# Altium footprint library Footprints_Open.PcbLib: 9 footprints
Each footprint in its own frame and in the unit in brackets; x right, y up, seen from the top. Pads: shape width x height; smd on the part's side, far side on the other; paste and mask are expansions set on the pad; w line width, h text height; cw(c..) or ccw(c..) is an arc to the next point about the centre after c.
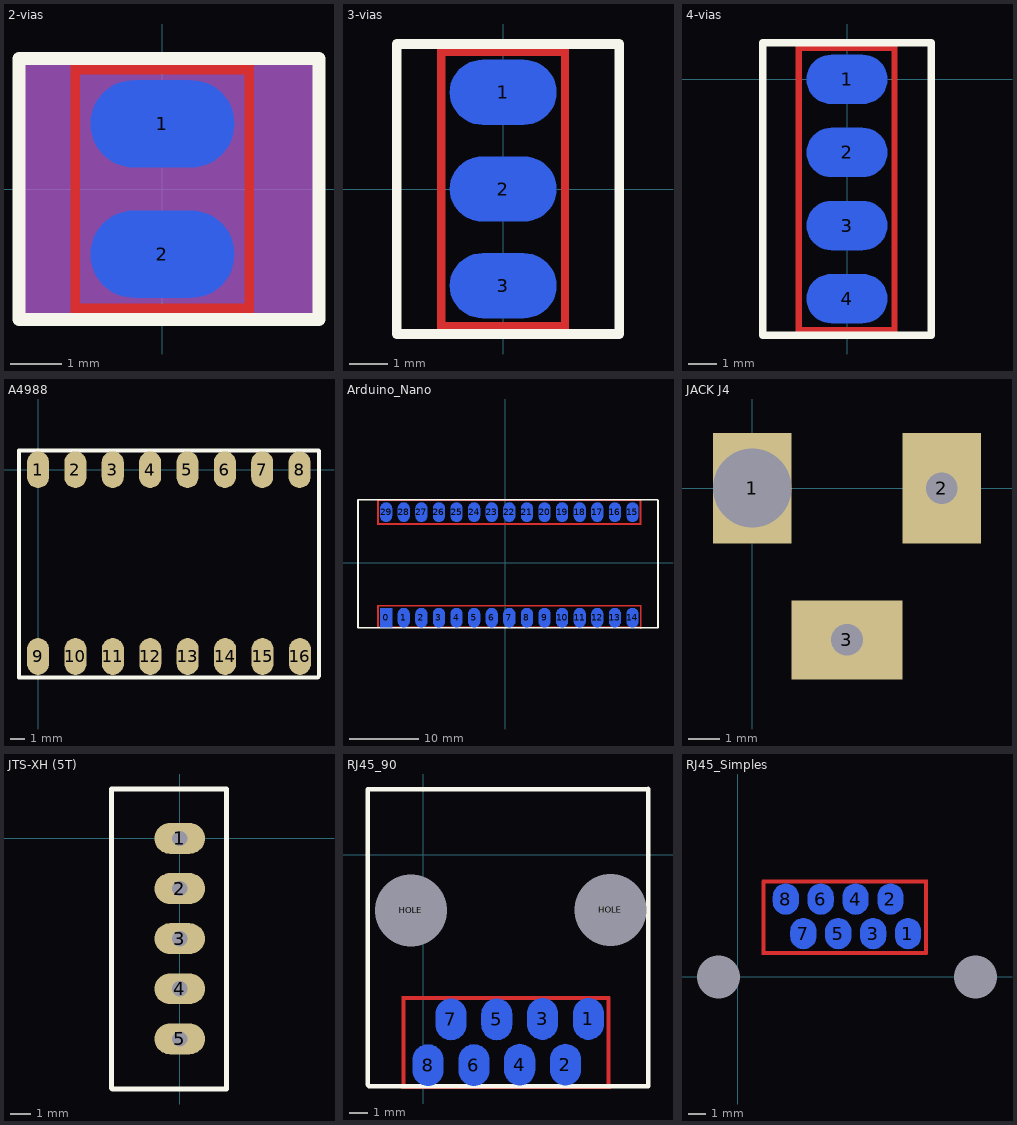
[diagram p0: the footprints below, top view; thin cyan lines are the x and y axes]

## 2-vias [mm]
pads (2):
  oval 2.8x1.7 smd far side: 1(0,1.27) 2(0,-1.27)
Top Layer:
  region: -1.676,2.413 -1.676,2.235 1.651,2.235 1.651,2.413
  region: -1.676,-2.235 -1.676,-2.413 1.651,-2.413 1.651,-2.235
  region: -1.791,2.413 -1.791,-2.413 -1.613,-2.413 -1.613,2.413
  region: 1.6,2.413 1.6,-2.413 1.778,-2.413 1.778,2.413
Top Overlay:
  lines w0.254: -2.794,-2.54 2.794,-2.54 3.048,-2.54 3.048,2.54 2.794,2.54 -2.794,2.54 -2.794,-2.54
Mechanical 1:
  cavity: -2.769,2.515 -2.794,2.489 -2.794,-2.565 2.997,-2.565 3.023,-2.591 3.048,-2.565 3.048,2.515
3D body "User Library-molex kk 0_1in latching 2 way vertical header.step": height 11.7, standoff -3.54, extent -2.87,-2.54 2.972,2.54

## 3-vias [mm]
pads (3):
  oval 2.8x1.7 smd far side: 1(0,2.54) 2(0,0) 3(0,-2.54)
Top Layer:
  region: 1.524,3.683 1.524,-3.683 1.727,-3.683 1.727,3.683
  region: -1.6,-3.505 -1.6,-3.683 1.727,-3.683 1.727,-3.505
  region: -1.727,3.683 -1.727,-3.683 -1.524,-3.683 -1.524,3.683
  region: -1.626,3.683 -1.626,3.505 1.702,3.505 1.702,3.683
Top Overlay:
  lines w0.254: -2.794,-3.81 2.794,-3.81 3.048,-3.81 3.048,3.81 2.794,3.81 -2.794,3.81 -2.794,-3.81
3D body "User Library-molex kk 0_1in latching 3 way vertical header.step": height 11.7, standoff -3.54, extent -2.845,-3.785 2.997,3.835

## 4-vias [mm]
pads (4):
  oval 2.8x1.7 smd far side: 1(0,0) 2(0,-2.54) 3(0,-5.08) 4(0,-7.62)
Top Layer:
  region: 1.549,1.016 1.549,-8.661 1.753,-8.661 1.753,1.016
  region: -1.778,1.149 -1.778,0.991 1.753,0.991 1.753,1.15
  region: -1.778,-8.604 -1.778,-8.763 1.753,-8.763 1.753,-8.604
  region: -1.778,1.041 -1.778,-8.636 -1.575,-8.636 -1.575,1.041
Top Overlay:
  lines w0.254: -2.921,-8.89 -2.921,1.27 -2.286,1.27 2.286,1.27 2.921,1.27 2.921,-8.89 -2.921,-8.89
3D body: height 0.25, standoff 0, extent 0,0 0,0
3D body "SW3dPS-molex kk 0_1in latching 4 way vertical header.STEP": height 11.7, standoff -3.54, extent -2.921,-8.89 2.921,1.27

## A4988 [mm]
pads (16):
  oval 1.5x2.5 all layers, no hole: 1(0,0) 2(2.54,0) 3(5.08,0) 4(7.62,0) 5(10.16,0) 6(12.7,0) 7(15.24,0) 8(17.78,0) 9(0,-12.7) 10(2.544,-12.7) 11(5.087,-12.7) 12(7.631,-12.7) 13(10.175,-12.7) 14(12.718,-12.7) 15(15.262,-12.7) 16(17.805,-12.7)
Top Overlay:
  lines w0.254: -1.295,1.295 19.075,1.295 19.101,1.27 19.101,-14.046 19.025,-14.122 -1.295,-14.122 -1.295,1.194 -1.219,1.27 -1.245,1.27
3D body "User Library-A4988.STEP": height 5.09, standoff -5.07, extent -1.27,-13.97 19.05,1.27

## Arduino_Nano [mm]
pads (30):
  rect 1.7x2.8 smd far side: 0(-17.17,-7.925)
  oval 1.7x2.8 smd far side: 1(-14.63,-7.925) 2(-12.09,-7.925) 3(-9.55,-7.925) 4(-7.01,-7.925) 5(-4.47,-7.925) 6(-1.93,-7.925) 7(0.61,-7.925) 8(3.15,-7.925) 9(5.69,-7.925) 10(8.23,-7.925) 11(10.77,-7.925) 12(13.31,-7.925) 13(15.85,-7.925) 14(18.39,-7.925) 15(18.39,7.315) 16(15.85,7.315) 17(13.31,7.315) 18(10.77,7.315) 19(8.23,7.315) 20(5.69,7.315) 21(3.15,7.315) 22(0.61,7.315) 23(-1.93,7.315) 24(-4.47,7.315) 25(-7.01,7.315) 26(-9.55,7.315) 27(-12.09,7.315) 28(-14.63,7.315) 29(-17.17,7.315)
Top Layer:
  region: 19.482,-6.299 19.482,-9.538 19.685,-9.538 19.685,-6.299
  region: -18.415,-6.097 -18.415,-6.299 19.685,-6.3 19.685,-6.092
  region: -18.44,-6.121 -18.44,-9.36 -18.237,-9.36 -18.237,-6.121
  region: -18.44,-9.195 -18.44,-9.398 19.66,-9.399 19.66,-9.191
  region: -18.44,5.689 -18.44,5.487 19.66,5.486 19.66,5.694
  region: -18.44,9.068 -18.44,5.537 -18.237,5.537 -18.237,9.068
  region: 19.456,9.068 19.456,5.563 19.66,5.563 19.66,9.068
  region: -18.44,9.194 -18.44,8.992 19.66,8.991 19.66,9.198
Top Overlay:
  lines w0.254: -21.234,-9.373 22.073,-9.373 22.073,8.992 21.971,9.093 -21.234,9.093 -21.234,-9.373

## JACK J4 [mm]
pads (3):
  rect 2.5x3.5 hole 2.5 square: 1(0,0)
  rect 2.5x3.5 hole 1 square: 2(6,0)
  rect 3.5x2.5 hole 1 square: 3(3,-4.8)
3D body "EJ503B-ND.stp": height 11, standoff -4.3, extent -7.94,-4.713 6.68,4.612

## JTS-XH (5T) [mm]
pads (5):
  oval 2.524x1.54 hole 0.762: 1(0,0) 2(0,-2.5) 3(0,-5) 4(0,-7.5) 5(0,-10)
Top Overlay:
  lines w0.254: -3.404,2.438 -3.404,-12.446 -3.353,-12.497 2.337,-12.497 2.337,2.438 ; -3.404,2.464 2.337,2.464
3D body "SW3dPS-jst-b4b-xh-a.STEP": height 7.01, standoff -3.39, extent -3.408,-12.454 2.342,2.446

## RJ45_90 [mil]
pads (10):
  oval 66.93x90.55 smd far side: 1(360,-358) 2(310,-458) 3(260,-358) 4(210,-458) 5(160,-359) 6(110,-459) 7(60,-359) 8(10,-459)
  round 60 hole 157.48: HOLE(-27.4,-121) HOLE(408.03,-120)
Top Layer:
  region: -47,-308.02 -47,-316 407,-316.01 407,-307.97
  region: 400,-310 400,-509 408,-509 408,-310
  region: -47,-503.03 -47,-511.01 409,-511.02 409,-502.98
  region: -48,-311 -48,-510 -40,-510 -40,-311
Top Overlay:
  lines w10: -122,-502 -119,-505 491,-505 491,144 490,143 -122,143 -122,-502
3D body "ACC-M-RJE08-188-0110-REVT1.step": height 630.42, standoff -168, extent -119.23,-505 491,144.61

## RJ45_Simples [mm] "Sem led nessas porra - 8P8C"
pads (10):
  oval 1.5x1.8 smd far side: 1(9.9,2.52) 2(8.88,4.53) 3(7.87,2.52) 4(6.85,4.53) 5(5.84,2.52) 6(4.82,4.53) 7(3.81,2.52) 8(2.79,4.53)
  round 0 hole 2.5: HOLE(-1.13,0) HOLE(13.83,0)
Top Layer:
  region: 1.397,5.588 1.397,1.295 1.6,1.295 1.6,5.588
  region: 1.397,1.498 1.397,1.295 11.024,1.295 11.024,1.499
  region: 10.846,5.639 10.846,1.346 11.049,1.346 11.049,5.639
  region: 1.422,5.664 1.422,5.461 11.049,5.461 11.049,5.665
3D body "ACC-M-RJHSE-508X-REVT1.SLDPRT": height 12.84, standoff -3.55, extent -1.499,-5.356 14.249,10.03
3D body: height 0.25, standoff 0, extent 5.944,2.845 5.944,2.845
3D body: height 0.25, standoff 0, extent 3.531,0.864 3.531,0.864
3D body: height 0.25, standoff 0, extent 8.382,-1.346 8.382,-1.346
3D body: height 0.25, standoff 0, extent 12.344,10.693 12.344,10.693
3D body "ACC-M-RJHSE-508X-REVT1.SLDPRT": height 12.84, standoff -3.55, extent -1.549,-5.512 14.199,9.874